# Altium footprint library WP-01.PcbLib: 1 footprints
Each footprint in its own frame and in the unit in brackets; x right, y up, seen from the top. Pads: shape width x height; smd on the part's side, far side on the other; paste and mask are expansions set on the pad; w line width, h text height; cw(c..) or ccw(c..) is an arc to the next point about the centre after c.
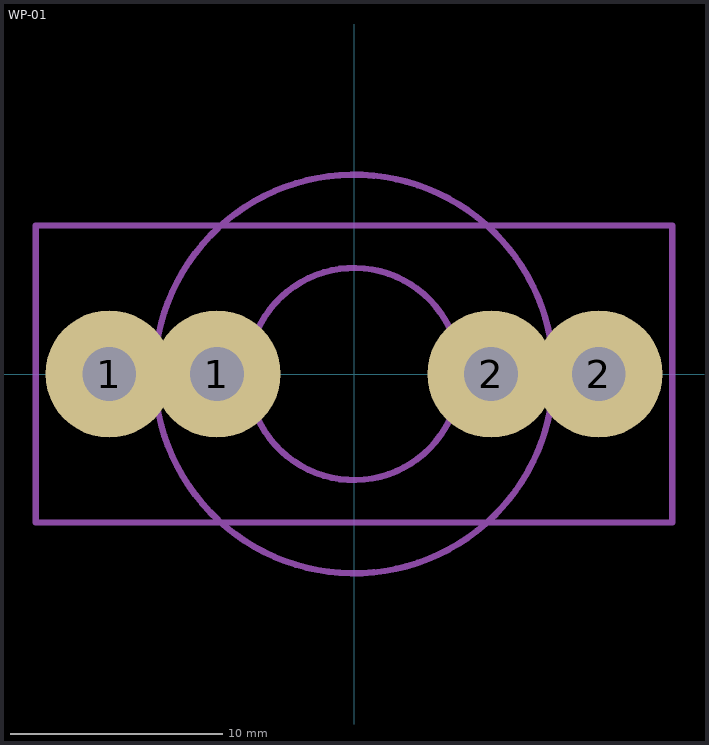
[diagram p0: the footprint, top view; thin cyan lines are the x and y axes]

## WP-01 [mm]
pads (4):
  round 6 hole 2.54: 1(-11.54,0) 1(-6.46,0) 2(6.46,0) 2(11.54,0)
Mechanical 13:
  circle w0.3: c0,0 r5
  circle w0.3: c-0.002,0 r9.4
  lines w0.3: -15,-7 -15,7 15,7 15,-7 -15,-7
  text ".Designator" at -3.666,-5.842 h2.5
3D body: height 7.1, standoff -4, extent -12.734,-2.17 -5.334,0.508
3D body: height 7.1, standoff -4, extent 5.334,-2.17 12.734,0.508
3D body: height 45.9, standoff 0, extent -14.5,-9.78 14.5,9.012